# EAGLE library part AD8606 (library nonolith)
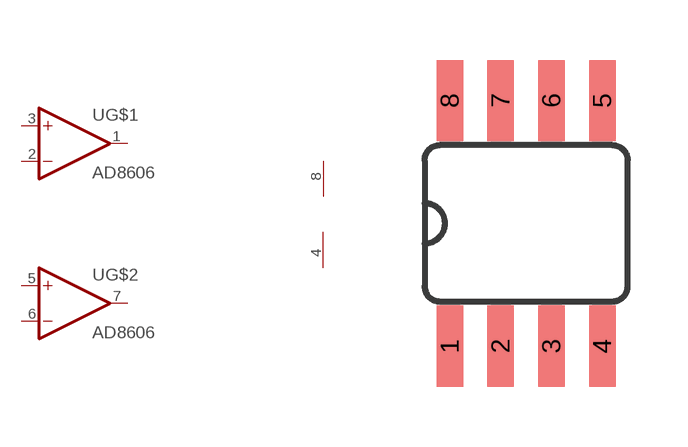
[diagram p18: symbol with the pads of SO-08; footprint SO-08]

Designator prefix -; gates G$1=OPAMP G$2=OPAMP G$3=PWR+-

## AD8606  [SO-08]
1  G$1:OUT  out
2  G$1:-IN  in
3  G$1:+IN  in
4  G$3:V-  pwr
5  G$2:+IN  in
6  G$2:-IN  in
7  G$2:OUT  out
8  G$3:V+  pwr

## Footprint SO-08 (pad centres in mm)
smd 0.66 x 2.032: 1 -1.905,-3.073; 2 -0.635,-3.073; 3 0.635,-3.073; 4 1.905,-3.073; 5 1.905,3.073; 6 0.635,3.073; 7 -0.635,3.073; 8 -1.905,3.073